# Altium schematic symbol library Varistor.SchLib: 4 symbols
Pins are listed as number, name and electrical type; pins without a type are passive.

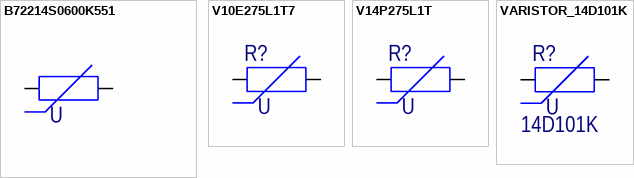
[diagram p0: symbols B72214S0600K551 to VARISTOR_14D101K]

## B72214S0600K551
designator R?
Var MOV 60VAC/85VDC 4500A 100V Radial Automotive T/R; Manufacturer: TDK EPCOS; Max Voltage Rating (AC): 60V; Max Surge Current: 4.5kA; Max Voltage Rating (DC): 85V; Capacitance: 1.65nF; Current Rating: 10A; Tolerance: 10%; Clamping Voltage: 165V; Clamping Current: 50A; Supplier 1: Digi-Key; Manufacturer Part Number: B72214S0600K551; RoHS: Yes; Category: Resistors; Stock 1: 3950; Pricing 1: 1=0,61000, 10=0,51300, 25=0,44880, 100=0,38460, 250=0,33332, 500=0,28204 (USD); Mount: Through Hole; Case/Package: Radial; Contact Plating: Tin; Min Operating Temperature: -40°C; Max Operating Temperature: 85°C; Packaging: Tape and Reel; Package Quantity: 1500; Varistor Voltage: 100V; Voltage Rating (DC): 85V; Voltage Rating (AC): 60V; Termination: Radial; Voltage Tolerance: 10%; Lead/Base Style: Radial; Series: B722; Diameter: 14mm; Lead Pitch: 7.5mm; Depth: 4mm; RoHS Compliant: Yes; ComponentLink1URL: https://datasheet.ciiva.com/26913/getdatasheetpartid-382571-26913599.pdf?src-supplier=Verical; ComponentLink1Description: https://datasheet.ciiva.com/26913/getdatasheetpartid-382571-26913599.pdf?src-supplier=Verical; Supplier Part Number 1: 495-76215-1-ND
footprint B72214S0600K551_S14K60 (VARISTOR DISC 14MM THICKNESS 4MM)
pins: 1, 2
text: U

## V10E275L1T7
designator R?  (value not drawn)
VARISTOR 430V 3.5KA DISC 10MM; Manufacturer Part Number: V10E275L1T7; Manufacturer: Littelfuse Inc.; TH: 1
footprint VAR_V10E275PL1T7 (VARISTOR 430V 3.5KA DISC 10MM)
pins: 1, 2
text: U

## V14P275L1T
designator R?  (value not drawn)
VARISTOR 430V 6KA DISC 14MM; Manufacturer Part Number: V14P275L1T; Manufacturer: Littelfuse Inc.; TH: 1
footprint VAR_V14P275L1T
pins: 1, 2
text: U

## VARISTOR_14D101K
designator R?, comment 14D101K
VARISTOR VMAX 60VAC 85VDC 0.6W DISC 14MM; Manufacturer: RUILON(Shenzhen Ruilongyuan Elec); Allowable Voltage(Vdc): 85V; Clamping Voltage: 165V; Surge Current: 4.5KA; Varistor Voltage(Min): 90V; Variastor Voltage(Typ): 100V; Varistor Voltage(Max): 110V; Manufacturer Part Number: 14D101K
footprint VAR_V14D101K (VARISTOR DIAMETR 14mm)
pins: 1, 2
text: U